# Altium schematic symbol library Rocket_library.SchLib: 87 symbols
Pins are listed as number, name and electrical type; pins without a type are passive.

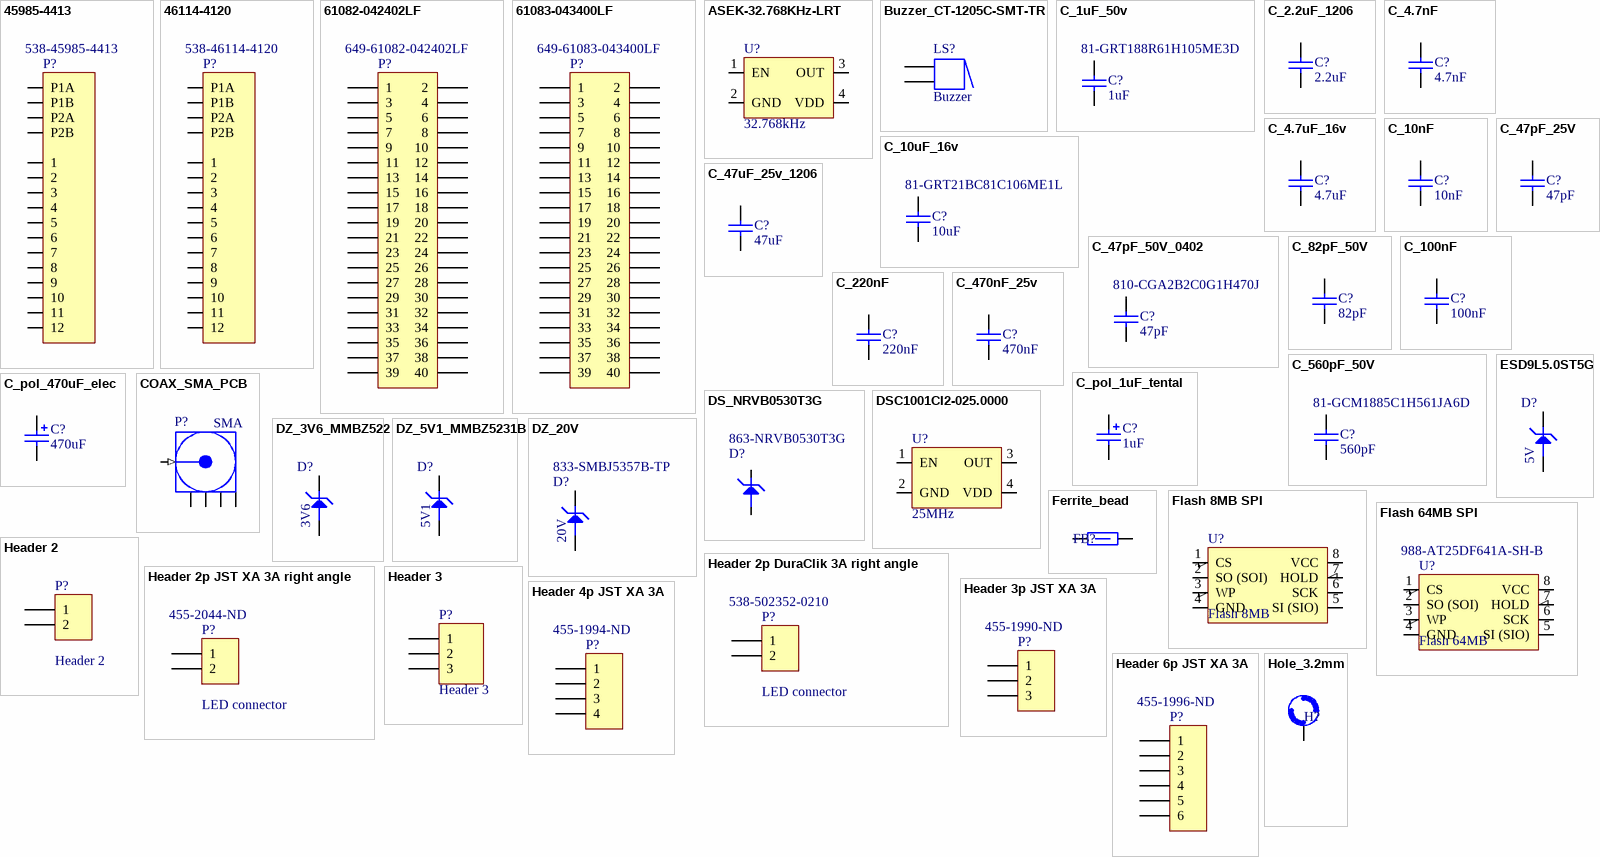
[diagram p0: symbols 45985-4413 to Hole_3.2mm]

## 45985-4413
designator P?  Supplier Part Number 1: 538-45985-4413
Heavy Duty Power Connectors LPH Plug Assy RtAn 0 4 Pwr 12 Sig P and G; Supplier 1: Mouser
footprint 45985-4413 PCB Receptacles (EXTreme LPH Power™ Header, Right Angle, 4 Power Contacts, 12 Signal Contacts, Select Gold (Au) Plating, for 1.57mm Thick PC Board, with Guide Pockets, with Press-fit Plastic Pegs)
pins: 1, 2, 3, 4, 5, 6, 7, 8, 9, 10, 11, 12, P1A, P1B, P2A, P2B

## 46114-4120
designator P?  Supplier Part Number 1: 538-46114-4120
Heavy Duty Power Connectors LPH VERT. ASSY W GUI W GUIDES 4PX12S CKT; Supplier 1: Mouser
footprint 46114-4120 PCB Receptacles (1.27mm, 12.00mm Pitch, EXTreme LPHPower™ Receptacle Header, Vertical, 4 Power Contacts, 12 Signal Contacts, Select Gold (Au) Plating, with BMI Guides)
pins: 1, 2, 3, 4, 5, 6, 7, 8, 9, 10, 11, 12, P1A, P1B, P2A, P2B

## 61082-042402LF
designator P?  Supplier Part Number 1: 649-61082-042402LF
Connecteurs carte à carte et mezzanine 40P RECPT; Supplier 1: Mouser
footprint 61082-042402LF (Connecteurs carte à carte et mezzanine 40P RECPT)
pins: 1, 2, 3, 4, 5, 6, 7, 8, 9, 10, 11, 12, 13, 14, 15, 16, 17, 18, 19, 20, 21, 22, 23, 24, 25, 26, 27, 28, 29, 30, 31, 32, 33, 34, 35, 36, 37, 38, 39, 40

## 61083-043400LF
designator P?  Supplier Part Number 1: 649-61083-043400LF
Connecteurs carte à carte et mezzanine PLUG 40P; Supplier 1: Mouser
footprint 61083-043400LF (Connecteurs carte à carte et mezzanine 6.70MM PLUG 40P)
pins: 1, 2, 3, 4, 5, 6, 7, 8, 9, 10, 11, 12, 13, 14, 15, 16, 17, 18, 19, 20, 21, 22, 23, 24, 25, 26, 27, 28, 29, 30, 31, 32, 33, 34, 35, 36, 37, 38, 39, 40

## ASEK-32.768KHz-LRT
designator U?, comment 32.768kHz
Osc; Supplier 1: Mouser; Supplier Part Number 1: 815-ASEK-32.7K-LRT
footprint SMD_3.2X2.5MM_4P
pins: 1 EN, 2 GND, 3 OUT, 4 VDD

## Buzzer_CT-1205C-SMT-TR
designator LS?, comment Buzzer
Magnetic Transducer Buzzer 5VDC; Supplier 1: Mouser; Supplier Part Number 1: 490-CT-1205C-SMT-TR
footprint CT-1205C-SMT
pins: 1, 2
1 alternate drawing of the same symbol

## C_1uF_50v
designator C?, comment 1uF  Supplier Part Number 1: 81-GRT188R61H105ME3D
Capacitor; Supplier 1: Mouser
footprint CAP0603R (capacitor 0603 reflow soldering)
pins: 1, 2

## C_2.2uF_1206
designator C?, comment 2.2uF
Capacitor; Supplier 1: Mouser; Supplier Part Number 1: 81-GCG31MR71E225JA2L
simulation model CAP (Capacitor)
signal-integrity model Cap
footprint CAP1206W (capacitor 1206 wave soldering)
pins: 1, 2

## C_4.7nF
designator C?, comment 4.7nF
Capacitor; Supplier 1: Mouser; Supplier Part Number 1: 81-GCG188R92A472KA1D
simulation model CAP (Capacitor)
signal-integrity model Cap
footprint CAP0603R (capacitor 0603 reflow soldering)
pins: 1, 2

## C_4.7uF_16v
designator C?, comment 4.7uF
Capacitor; Supplier 1: Mouser; Supplier Part Number 1: 81-GCG21BR71C475KA2L
simulation model CAP (Capacitor)
signal-integrity model Cap
footprint CAP0805W (capacitor 0805 wave soldering)
pins: 1, 2

## C_10nF
designator C?, comment 10nF
Capacitor; Supplier 1: Mouser; Supplier Part Number 1: 81-GCG188R91H103KA3D
simulation model CAP (Capacitor)
signal-integrity model Cap
footprint CAP0603R (capacitor 0603 reflow soldering)
pins: 1, 2

## C_10uF_16v
designator C?, comment 10uF  Supplier Part Number 1: 81-GRT21BC81C106ME1L
Capacitor; Supplier 1: Mouser
footprint CAP0805W (capacitor 0805 wave soldering)
pins: 1, 2

## C_47pF_25V
designator C?, comment 47pF
Capacitor; Supplier 1: Mouser; Supplier Part Number 1: 77-VJ0603A470JXXPBC
footprint CAP0603R (capacitor 0603 reflow soldering)
pins: 1, 2

## C_47pF_50V_0402
designator C?, comment 47pF  Supplier Part Number 1: 810-CGA2B2C0G1H470J
Capacitor; Supplier 1: Mouser
footprint 0402
pins: 1, 2

## C_47uF_25v_1206
designator C?, comment 47uF
Capacitor; Supplier 1: Mouser; Supplier Part Number 1: 810-C3216X5R1E476M
footprint CAP1206W (capacitor 1206 wave soldering)
pins: 1, 2

## C_82pF_50V
designator C?, comment 82pF
Capacitor; Supplier 1: Mouser; Supplier Part Number 1: 81-GCM1885C1H820JA6D
footprint CAP0603R (capacitor 0603 reflow soldering)
pins: 1, 2

## C_100nF
designator C?, comment 100nF
Capacitor; Supplier 1: Mouser; Supplier Part Number 1: 81-GCG188R91H104KA1D
simulation model CAP (Capacitor)
signal-integrity model Cap
footprint CAP0603R (capacitor 0603 reflow soldering)
pins: 1, 2

## C_220nF
designator C?, comment 220nF
Capacitor; Supplier 1: Mouser; Supplier Part Number 1: 81-GCG188R91H224KA1D
simulation model CAP (Capacitor)
signal-integrity model Cap
footprint CAP0603R (capacitor 0603 reflow soldering)
pins: 1, 2

## C_470nF_25v
designator C?, comment 470nF
Capacitor; Supplier 1: Mouser; Supplier Part Number 1: 81-GRT188R61E474KE3D
footprint CAP0603R (capacitor 0603 reflow soldering)
pins: 1, 2

## C_560pF_50V
designator C?, comment 560pF  Supplier Part Number 1: 81-GCM1885C1H561JA6D
Capacitor; Supplier 1: Mouser
footprint CAP0603R (capacitor 0603 reflow soldering)
pins: 1, 2

## C_pol_1uF_tental
designator C?, comment 1uF
Polarized Capacitor; Revision: July-2002: Re-released for DXP Platform.; Supplier 1: Mouser; Supplier Part Number 1: 581-TAJA105K016
simulation model CAP (Capacitor)
signal-integrity model Cap Pol
footprint CAP1206-case_A
pins: 1, 2

## C_pol_470uF_elec
designator C?, comment 470uF
Polarized Capacitor; Supplier 1: Mouser; Supplier Part Number 1: 647-UWT1E471MNL1S
footprint PCV_10x10 (PCV_8x10)
pins: 1, 2

## COAX_SMA_PCB
designator P?, comment SMA
Connecteurs coaxiaux SMA STRAIGHT JACK PCB MOUNT BULKHEAD; Supplier 1: Mouser; Supplier Part Number 1: 523-132291
footprint SMA_TH_VERTICAL_LONG
pins: 1 (in) "Signal Pin", 2 (power), 3 (power), 4 (power), 5 (power)

## DS_NRVB0530T3G
designator D?  Supplier Part Number 1: 863-NRVB0530T3G
Supplier 1: Mouser
footprint SOD123
pins: 1, 2

## DSC1001CI2-025.0000
designator U?, comment 25MHz
Osc; Supplier 1: Mouser; Supplier Part Number 1: 998-1001CI2025.0000T
footprint SMD_3.2X2.5MM_4P
pins: 1 EN, 2 GND, 3 OUT, 4 VDD

## DZ_3V6_MMBZ522
designator D?, comment 3V6
Zener Diodes 3.6V 225mW; Supplier 1: Mouser; Supplier Part Number 1: 863-MMBZ5227BLT1G
footprint SOT23
pins: 1, 3

## DZ_5V1_MMBZ5231B
designator D?, comment 5V1
Supplier 1: Mouser; Supplier Part Number 1: 863-SZMMBZ5231BLT3G
footprint SOT23
pins: 1, 3

## DZ_20V
designator D?, comment 20V  Supplier Part Number 1: 833-SMBJ5357B-TP
Zener Diodes 5W 20V; Supplier 1: Mouser
footprint DO-214AA
pins: A, C

## ESD9L5.0ST5G
designator D?, comment 5V
Diodes TVS - Parasurtenseurs ESD; Supplier 1: Mouser; Supplier Part Number 1: 863-ESD9L5.0ST5G
footprint SOD-923
pins: 1, 2

## Ferrite_bead
designator FB?, comment 81-BLM18KG601SZ1D  (value not drawn)
Supplier 1: Mouser; Supplier Part Number 1: 81-BLM18KG601SZ1D
footprint 0603
pins: 1, 2

## Flash 8MB SPI
designator U?, comment Flash 8MB
Supplier 1: Mouser; Supplier Part Number 1: 556-AT25DF081A-SSH-B
footprint SOIC-8
pins: 1 CS, 2 SO (SOI), 3 WP, 4 GND, 5 SI (SIO), 6 SCK, 7 HOLD, 8 VCC

## Flash 64MB SPI
designator U?, comment Flash 64MB  Supplier Part Number 1: 988-AT25DF641A-SH-B
Supplier 1: Mouser
footprint SOIC-8
pins: 1 CS, 2 SO (SOI), 3 WP, 4 GND, 5 SI (SIO), 6 SCK, 7 HOLD, 8 VCC

## Header 2
designator P?
Juste pour tester!!!
footprint Con Prov 2P Power
pins: 1, 2

## Header 2p DuraClik 3A right angle
designator P?, comment LED connector  Supplier Part Number 1: 538-502352-0210
Header 2p DuraClik 3A right angle; Supplier 1: Mouser
footprint CON_DURACLIK_502352-0210 (Embases Hdr Singl Row RA 2Ckt Natural Gold 3A)
pins: 1, 2

## Header 2p JST XA 3A right angle
designator P?, comment LED connector  Supplier Part Number 1: 455-2044-ND
Header 2p JST XA 3A right angle; Supplier 1: Digi-Key
footprint CON_JST_XA_ S02B-XASS-1 (Embases Hdr Singl Row 2Ckt 3A)
pins: 1, 2

## Header 3
designator P?
Juste pour tester!!!
footprint CON prov 3p
pins: 1, 2, 3

## Header 3p JST XA 3A
designator P?  Supplier Part Number 1: 455-1990-ND
Header 3p JST XA 3A; Supplier 1: Digi-Key
footprint CON_JST_XA_ B03B-XASK (Embases Hdr Singl Row 3Ckt 3A)
pins: 1, 2, 3

## Header 4p JST XA 3A
designator P?  Supplier Part Number 1: 455-1994-ND
Header 4p JST XA 3A; Supplier 1: Digi-Key
footprint CON_JST_XA_ B04B-XASK (Embases Hdr Singl Row 4Ckt 3A)
pins: 1, 2, 3, 4

## Header 6p JST XA 3A
designator P?  Supplier Part Number 1: 455-1996-ND
Header 6p JST XA 3A; Supplier 1: Digi-Key
footprint CON_JST_XA_ B06B-XASK (Embases Hdr Singl Row 6Ckt 3A)
pins: 1, 2, 3, 4, 5, 6

## Hole_3.2mm
designator H?
Osc
footprint HOLE_3.2mm
pins: 0

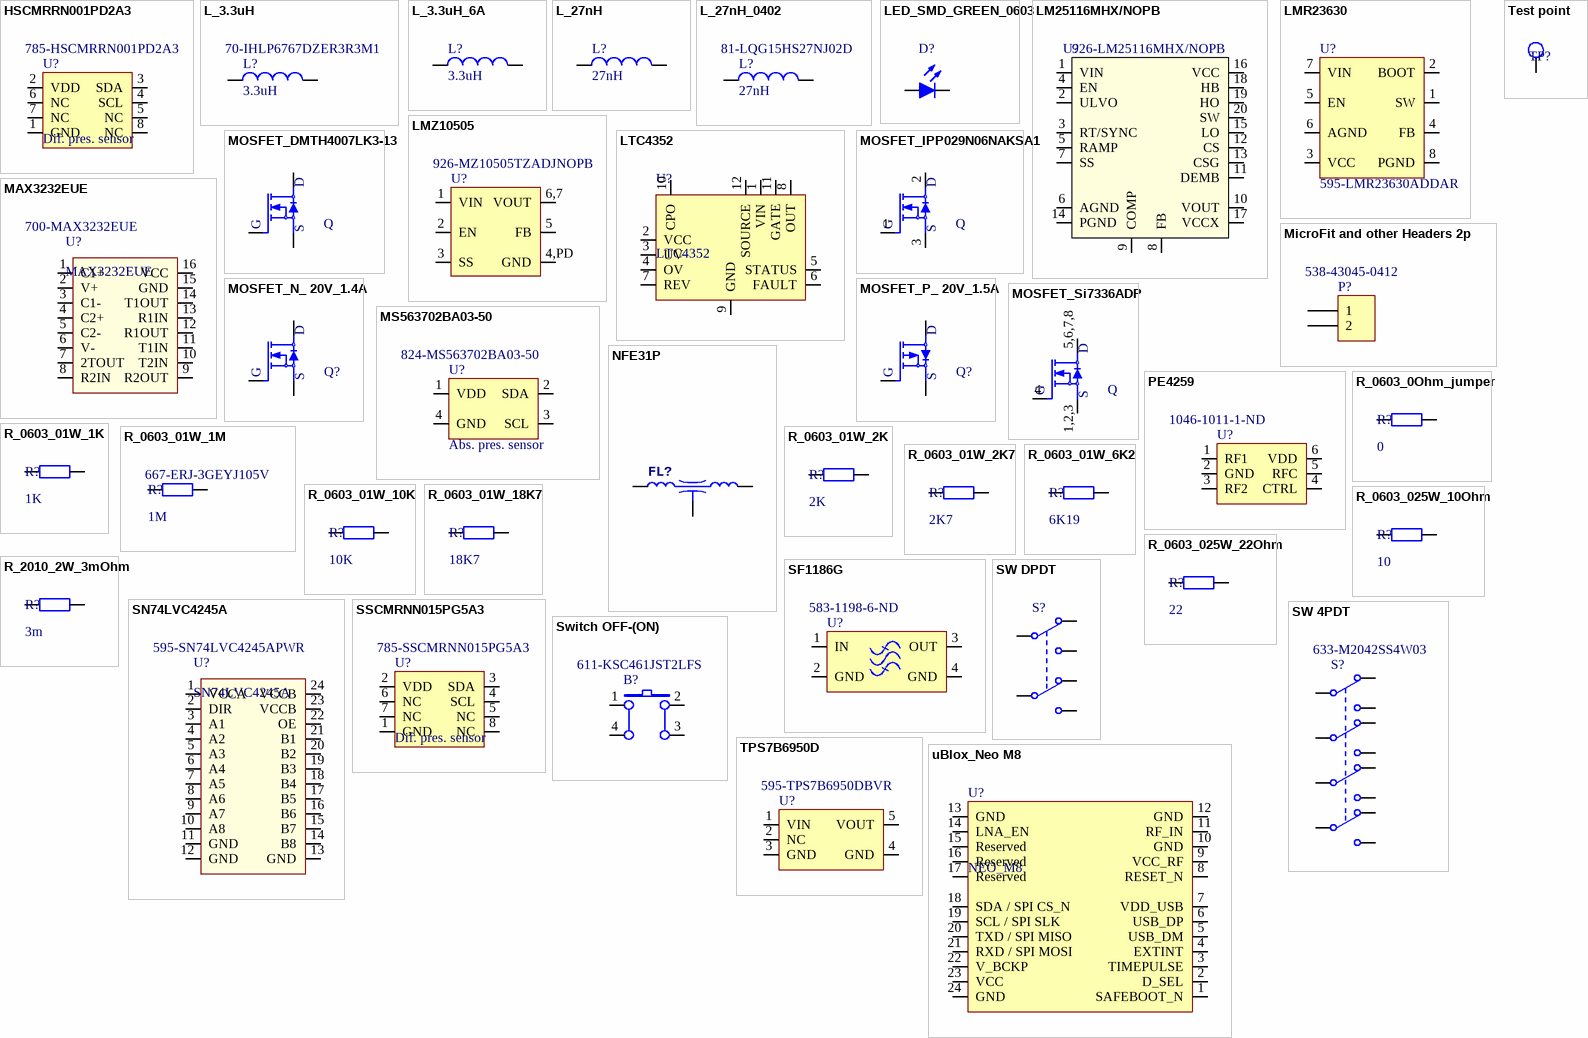
[diagram p1: symbols HSCMRRN001PD2A3 to uBlox_Neo M8]

## HSCMRRN001PD2A3
designator U?, comment Dif. pres. sensor  Supplier Part Number 1: 785-HSCMRRN001PD2A3
Diff pressure sensor 1 psi; Supplier 1: Mouser
footprint HSCMRRN060PDSA3 (Pressure sensor)
pins: 1 GND, 2 VDD, 3 SDA, 4 SCL, 5 NC, 6 NC, 7 NC, 8 NC

## L_3.3uH
designator L?, comment 3.3uH  Supplier Part Number 1: 70-IHLP6767DZER3R3M1
Inductor; Supplier 1: Mouser
footprint IHLP_Inductor
pins: 1, 2

## L_3.3uH_6A
designator L?, comment 3.3uH
Inductors 3.3uH 20%; Supplier 1: Mouser; Supplier Part Number 1: 70-IHLP2525CZER3R3M0
footprint IHLP-2525CZ-01_Inductor
pins: 1, 2

## L_27nH
designator L?, comment 27nH
Inductor; Supplier 1: Mouser; Supplier Part Number 1: 81-LQG18HN27NJ00D
footprint 0603
pins: 1, 2

## L_27nH_0402
designator L?, comment 27nH  Supplier Part Number 1: 81-LQG15HS27NJ02D
Inductor; Supplier 1: Mouser
footprint 0402
pins: 1, 2

## LED_SMD_GREEN_0603
designator D?, comment LED  (value not drawn)
Standard LEDs - SMD WL-SMCW Waterclr 0603 Green; Supplier 1: Mouser; Supplier Part Number 1: 710-150060GS75000
footprint WL-SMCW
pins: A, C

## LM25116MHX/NOPB
designator U?  Supplier Part Number 1: 926-LM25116MHX/NOPB  (hidden comment: LM25116MHX/NOPB)
WIDE RANGE SYNC BUCK; Supplier 1: Mouser
footprint HTSSOP 20
pins: 1 VIN, 2 ULVO, 3 RT/SYNC, 4 EN, 5 RAMP, 6 AGND, 7 SS, 8 FB, 9 COMP, 10 VOUT, 11 DEMB, 12 CS, 13 CSG, 14 PGND, 15 LO, 16 VCC, 17 VCCX, 18 HB, 19 HO, 20 SW, 21 EP

## LMR23630
designator U?  Supplier Part Number 1: 595-LMR23630ADDAR
Voltage regulator 3A; Supplier 1: Mouser
footprint HSOIC-8
pins: 1 SW, 2 BOOT, 3 VCC, 4 FB, 5 EN, 6 AGND, 7 VIN, 8 PGND, PD PGND

## LMZ10505
designator U?  Supplier Part Number 1: 926-MZ10505TZADJNOPB
Voltage regulator 5A; Supplier 1: Mouser
footprint TO-PMOD-7
pins: 1 VIN, 2 EN, 3 SS, 4,PD GND, 5 FB, 6,7 VOUT

## LTC4352
designator U?
Supplier 1: Digi-Key; Supplier Part Number 1: LTC4352IMS#PBF-ND
footprint TSOP612 (TSOP, 12-Leads, Body 4.00x3.00mm, Pitch 0.65mm, IPC Low Density)
pins: 1 VIN, 2 VCC, 3 UV, 4 OV, 5 STATUS, 6 FAULT, 7 REV, 8 OUT, 9 GND, 10 CPO, 11 GATE, 12 SOURCE

## MAX3232EUE
designator U?  Supplier Part Number 1: 700-MAX3232EUE
RS-232 Interface IC 3-5.5V 235kbps Transceiver; Supplier 1: Mouser
footprint TSSOP 16
pins: 1 C1+, 2 V+, 3 C1-, 4 C2+, 5 C2-, 6 V-, 7 2TOUT, 8 R2IN, 9 R2OUT, 10 T2IN, 11 T1IN, 12 R1OUT, 13 R1IN, 14 T1OUT, 15 GND, 16 VCC

## MicroFit and other Headers 2p
designator P?, comment Supplier Part Number 1: 538-43045-0412  (hidden comment: Header MicroFit 2)
Supplier 1: Mouser
footprint Con 2P Power and MicroFit 4P
pins: 1, 2

## MOSFET_DMTH4007LK3-13
designator Q, comment MOSFET_N  (value not drawn)
Supplier 1: Mouser; Supplier Part Number 1: 621-DMTH4007LK3-13
footprint TO252
pins: D, G, S

## MOSFET_IPP029N06NAKSA1
designator Q, comment MOSFET_N  (value not drawn)
Supplier 1: Mouser; Supplier Part Number 1: 726-IPP029N06NAKSA1
footprint TO220
pins: 1 G, 2 D, 3 S

## MOSFET_N_ 20V_1.4A
designator Q?, comment MOSFET_N  (value not drawn)
MOSFET N-Ch 20V 1.4A SOT-323-3; Supplier 1: Mouser; Supplier Part Number 1: 726-SP000917562
footprint SOT-323-3
pins: 1 G, 2 S, 3 D

## MOSFET_P_ 20V_1.5A
designator Q?, comment MOSFET_P  (value not drawn)
MOSFET 40V P-channel Trench MOSFET SOT-23-3; Supplier 1: Mouser; Supplier Part Number 1: 771-PMV250EPEAR
footprint SOT23
pins: 1 G, 2 S, 3 D

## MOSFET_Si7336ADP
designator Q, comment MOSFET_N  (value not drawn)
Supplier 1: Mouser; Supplier Part Number 1: 781-SI7336ADP-T1-E3
footprint PowerPAK 1212-8
pins: 1,2,3 S, 4 G, 5,6,7,8 D

## MS563702BA03-50
designator U?, comment Abs. pres. sensor  Supplier Part Number 1: 824-MS563702BA03-50
Pressure sensor; Supplier 1: Mouser
footprint SMD_3.0X3.0MM_4P
pins: 1 VDD, 2 SDA, 3 SCL, 4 GND

## NFE31P
designator FL?, comment NFE31P Series (1206 Size)   Chip EMIFILr LC Combined Type  (value not drawn)
Supplier 1: Mouser; Supplier Part Number 1: 81-NFE31PT222Z1E9L
footprint LCL_NFE31P
pins: 1, 2, 3

## PE4259
designator U?  Supplier Part Number 1: 1046-1011-1-ND
RF SWITCH; Supplier 1: Digi-Key
footprint SC-70
pins: 1 RF1, 2 GND, 3 RF2, 4 CTRL, 5 RFC, 6 VDD

## R_0603_0Ohm_jumper
designator R?, comment 0
0 Ohm; Supplier 1: Mouser; Supplier Part Number 1: 667-ERJ-3GEY0R00V
simulation model RESISTOR (Resistor)
signal-integrity model Res
footprint 0603
pins: 1, 2

## R_0603_01W_1K
designator R?, comment 1K
0.1W 1K; Supplier 1: Mouser; Supplier Part Number 1: 667-ERJ-3GEYJ102V
simulation model RESISTOR (Resistor)
signal-integrity model Res
footprint 0603
pins: 1, 2

## R_0603_01W_1M
designator R?, comment 1M  Supplier Part Number 1: 667-ERJ-3GEYJ105V
0.1W 1M; Supplier 1: Mouser
simulation model RESISTOR (Resistor)
signal-integrity model Res
footprint 0603
pins: 1, 2

## R_0603_01W_2K
designator R?, comment 2K
0.1W 2K; Supplier 1: Mouser; Supplier Part Number 1: 667-ERJ-3EKF2001V
simulation model RESISTOR (Resistor)
signal-integrity model Res
footprint 0603
pins: 1, 2

## R_0603_01W_2K7
designator R?, comment 2K7
0.1W 2K7; Supplier 1: Mouser; Supplier Part Number 1: 667-ERJ-3EKF2701V
simulation model RESISTOR (Resistor)
signal-integrity model Res
footprint 0603
pins: 1, 2

## R_0603_01W_6K2
designator R?, comment 6K19
0.1W 6K19; Supplier 1: Mouser; Supplier Part Number 1: 667-ERJ-3EKF6191V
simulation model RESISTOR (Resistor)
signal-integrity model Res
footprint 0603
pins: 1, 2

## R_0603_01W_10K
designator R?, comment 10K
0.1W 10K; Supplier 1: Mouser; Supplier Part Number 1: 667-ERJ-3GEYJ103V
simulation model RESISTOR (Resistor)
signal-integrity model Res
footprint 0603
pins: 1, 2

## R_0603_01W_18K7
designator R?, comment 18K7
0.1W 18K7; Supplier 1: Mouser; Supplier Part Number 1: 667-ERJ-3EKF1872V
simulation model RESISTOR (Resistor)
signal-integrity model Res
footprint 0603
pins: 1, 2

## R_0603_025W_10Ohm
designator R?, comment 10
0.25W 10Ohm; Supplier 1: Mouser; Supplier Part Number 1: 667-ERJ-PA3J100V
footprint 0603
pins: 1, 2

## R_0603_025W_22Ohm
designator R?, comment 22
0.25W 22Ohm; LatestRevisionDate: 17-Jul-2002; LatestRevisionNote: Re-released for DXP Platform.; PackageReference: AXIAL-0.4; PackageDescription: Axial Device, Thru-Hole; 2 Leads; 0.4 in Pin Spacing; Supplier 1: Mouser; Supplier Part Number 1: 667-ERJ-PA3J220V
simulation model RESISTOR (Resistor)
signal-integrity model Res
footprint 0603
pins: 1, 2

## R_2010_2W_3mOhm
designator R?, comment 3m
2W 3mOhm; Supplier 1: Mouser; Supplier Part Number 1: 667-ERJ-MP3PF3M0U
signal-integrity model Res
footprint 2010
pins: 1, 2

## SF1186G
designator U?  Supplier Part Number 1: 583-1198-6-ND
SAW GPS Filter; Supplier 1: Digi-Key
footprint SMD_2.5X2MM_4P
pins: 1 IN, 2 GND, 3 OUT, 4 GND

## SN74LVC4245A
designator U?  Supplier Part Number 1: 595-SN74LVC4245APWR
Level shifter 8; Supplier 1: Mouser
footprint TSSOP 24
pins: 1 VCCA, 2 DIR, 3 A1, 4 A2, 5 A3, 6 A4, 7 A5, 8 A6, 9 A7, 10 A8, 11 GND, 12 GND, 13 GND, 14 B8, 15 B7, 16 B6, 17 B5, 18 B4, 19 B3, 20 B2, 21 B1, 22 OE, 23 VCCB, 24 VCCB

## SSCMRNN015PG5A3
designator U?, comment Dif. pres. sensor  Supplier Part Number 1: 785-SSCMRNN015PG5A3
Diff pressure sensor 0 psi to 15 psi; Supplier 1: Mouser
footprint HSCMRRN060PDSA3 (Pressure sensor)
pins: 1 GND, 2 VDD, 3 SDA, 4 SCL, 5 NC, 6 NC, 7 NC, 8 NC

## SW 4PDT
designator S?  Supplier Part Number 1: 633-M2042SS4W03  (hidden comment: SW 4PDT)
Switch; Supplier 1: Mouser
footprint M2042SS4W03
pins: 1, 2, 3, 4, 5, 6, 7, 8, 9, 10, 11, 12

## SW DPDT
designator S?  (value not drawn)
Switch; Supplier: Mouser; Supplier Part Number: 688-SSSS820101
footprint SMD Slide Switches ON-ON
pins: 1 NO1, 2 COMMON1, 3 NC1, 4 NO2, 5 COMMON2, 6 NC2

## Switch OFF-(ON)
designator B?  Supplier Part Number 1: 611-KSC461JST2LFS
OFF-(ON); Supplier 1: Mouser
footprint Switch CK
pins: 1 A0, 2 B0, 3 B1, 4 A1

## Test point
designator TP?  (value not drawn)
footprint TP
pins: 1

## TPS7B6950D
designator U?  Supplier Part Number 1: 595-TPS7B6950DBVR
LDO 5V 150mA; Supplier 1: Mouser
footprint SOT-23-5
pins: 1 VIN, 2 NC, 3 GND, 4 GND, 5 VOUT

## uBlox_Neo M8
designator U?, comment NEO_M8
GNSS; Supplier 1: uBlox; Supplier Part Number 1: NEO_M8N
footprint NEO-8
pins: 1 SAFEBOOT_N, 2 D_SEL, 3 TIMEPULSE, 4 EXTINT, 5 USB_DM, 6 USB_DP, 7 VDD_USB, 8 RESET_N, 9 VCC_RF, 10 GND, 11 RF_IN, 12 GND, 13 GND, 14 LNA_EN, 15 Reserved, 16 Reserved, 17 Reserved, 18 SDA / SPI CS_N, 19 SCL / SPI SLK, 20 TXD / SPI MISO, 21 RXD / SPI MOSI, 22 V_BCKP, 23 VCC, 24 GND

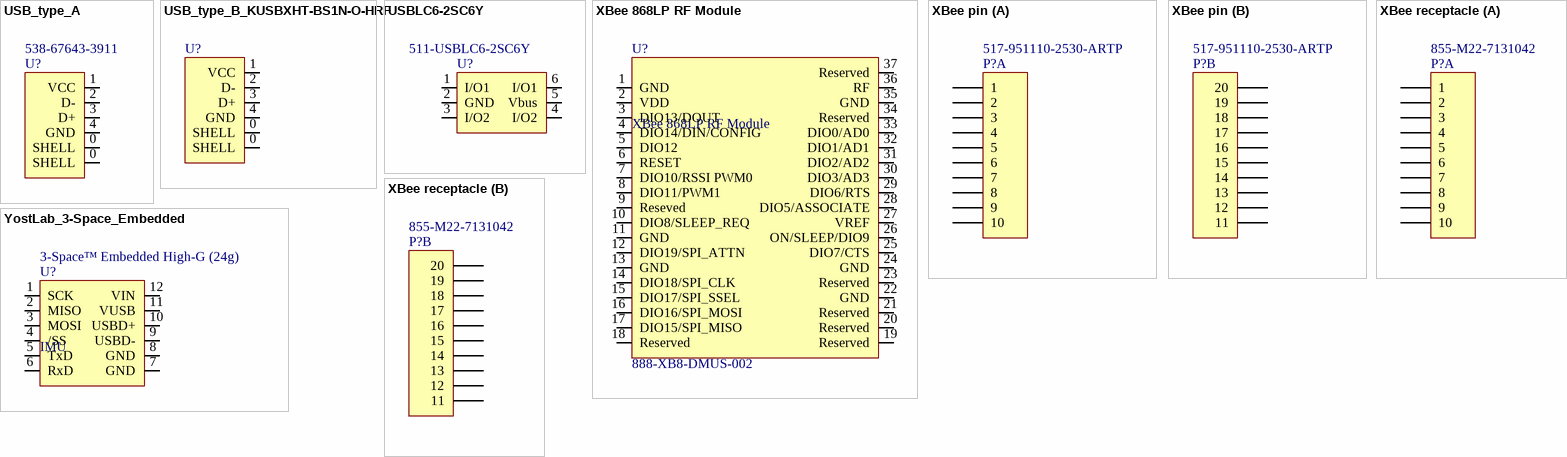
[diagram p2: symbols USB_type_A to YostLab_3-Space_Embedded]

## USB_type_A
designator U?  Supplier Part Number 1: 538-67643-3911
USB type A; Supplier 1: Mouser
footprint USB type A Right angle
pins: 0 SHELL, 0 SHELL, 1 VCC, 2 D-, 3 D+, 4 GND

## USB_type_B_KUSBXHT-BS1N-O-HRF
designator U?
USB type B; Supplier 1: Mouser; Supplier Part Number 1: 806-KUSBXHT-BS1NOHRF
footprint USB type B Right angle
pins: 0 SHELL, 0 SHELL, 1 VCC, 2 D-, 3 D+, 4 GND

## USBLC6-2SC6Y
designator U?  Supplier Part Number 1: 511-USBLC6-2SC6Y
ESD Suppressors; Supplier 1: Mouser
footprint SOT23-6L
pins: 1 I/O1, 2 GND, 3 I/O2, 4 I/O2, 5 Vbus, 6 I/O1

## XBee 868LP RF Module
designator U?  Supplier Part Number 1: 888-XB8-DMUS-002
Supplier 1: Mouser
footprint XBee 868LP RF Module
pins: 1 GND, 2 VDD, 3 DIO13/DOUT, 4 DIO14/DIN/CONFIG, 5 DIO12, 6 RESET, 7 DIO10/RSSI PWM0, 8 DIO11/PWM1, 9 Reseved, 10 DIO8/SLEEP_REQ, 11 GND, 12 DIO19/SPI_ATTN, 13 GND, 14 DIO18/SPI_CLK, 15 DIO17/SPI_SSEL, 16 DIO16/SPI_MOSI, 17 DIO15/SPI_MISO, 18 Reserved, 19 Reserved, 20 Reserved, 21 Reserved, 22 GND, 23 Reserved, 24 GND, 25 DIO7/CTS, 26 ON/SLEEP/DIO9, 27 VREF, 28 DIO5/ASSOCIATE, 29 DIO6/RTS, 30 DIO3/AD3, 31 DIO2/AD2, 32 DIO1/AD1, 33 DIO0/AD0, 34 Reserved, 35 GND, 36 RF, 37 Reserved

## XBee pin
designator P?  Supplier Part Number 1: 517-951110-2530-ARTP
XBee pin; Supplier 1: Mouser
footprint XBEE PIN
part A pins: 1, 2, 3, 4, 5, 6, 7, 8, 9, 10
part B pins: 11, 12, 13, 14, 15, 16, 17, 18, 19, 20

## XBee receptacle
designator P?  Supplier Part Number 1: 855-M22-7131042
XBee receptacle; Supplier 1: Mouser
footprint XBee receptacle
part A pins: 1, 2, 3, 4, 5, 6, 7, 8, 9, 10
part B pins: 11, 12, 13, 14, 15, 16, 17, 18, 19, 20

## YostLab_3-Space_Embedded
designator U?, comment IMU  Supplier Part Number 1: 3-Space™ Embedded High-G (24g)
Supplier 1: Yost Labs
footprint Yost Labs 3-Spac Embedded
pins: 1 SCK, 2 MISO, 3 MOSI, 4 /SS, 5 TxD, 6 RxD, 7 GND, 8 GND, 9 USBD-, 10 USBD+, 11 VUSB, 12 VIN